# Altium footprint library 10x1(3.5mm).PcbLib: 1 footprints
Each footprint in its own frame and in the unit in brackets; x right, y up, seen from the top. Pads: shape width x height; smd on the part's side, far side on the other; paste and mask are expansions set on the pad; w line width, h text height; cw(c..) or ccw(c..) is an arc to the next point about the centre after c.
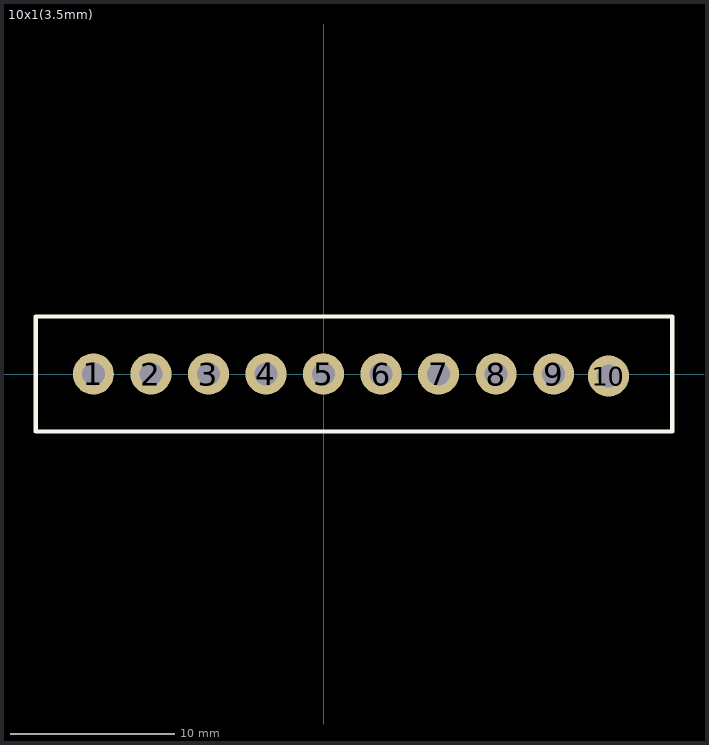
[diagram p0: the footprint, top view; thin cyan lines are the x and y axes]

## 10x1(3.5mm) [mm]
pads (10):
  round 2.5 hole 1.4: 1(-14,0) 2(-10.5,0) 3(-7,0) 4(-3.5,0) 5(0,0) 6(3.5,0) 7(7,0) 8(10.5,0) 9(14,0) 10(17.332,-0.127)
Top Overlay:
  lines w0.254: -17.5,-3.5 -17.5,3.5 21.209,3.5 21.209,-3.5 -17.5,-3.5